# Altium integrated library DIODE_SOD80C PMLL4148L.IntLib: 1 symbol
Pins are listed as number, name and electrical type; pins without a type are passive.

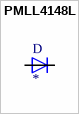
[diagram p0: symbol PMLL4148L]

## PMLL4148L
designator D
Diode Standard 75V 200mA _DC_ Surface Mount LLDS; MiniMelf; MF: Nexperia USA; MP: PMLL4148L; Value: *; Price: None; Package: SOD-80 NXP Semiconductors; SnapEDA_Link: https://www.snapeda.com/parts/PMLL4148L/Nexperia%20USA%20Inc./view-part/9225/?ref=snap; Availability: Unavailable
footprint SOD80C
pins: 1 K, 2 A